# Altium schematic symbol library USB Mini B VERT.SchLib: 1 symbol
Pins are listed as number, name and electrical type; pins without a type are passive.

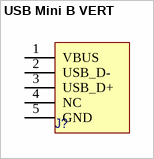
[diagram p0: symbol USB Mini B VERT]

## USB Mini B VERT
designator J?  (value not drawn)
pins: 1 VBUS, 2 USB_D-, 3 USB_D+, 4 NC, 5 GND